# Altium footprint library RES-TH_BD2.4-L6.3-P10.30-D0.6.PcbLib: 1 footprints
Each footprint in its own frame and in the unit in brackets; x right, y up, seen from the top. Pads: shape width x height; smd on the part's side, far side on the other; paste and mask are expansions set on the pad; w line width, h text height; cw(c..) or ccw(c..) is an arc to the next point about the centre after c.
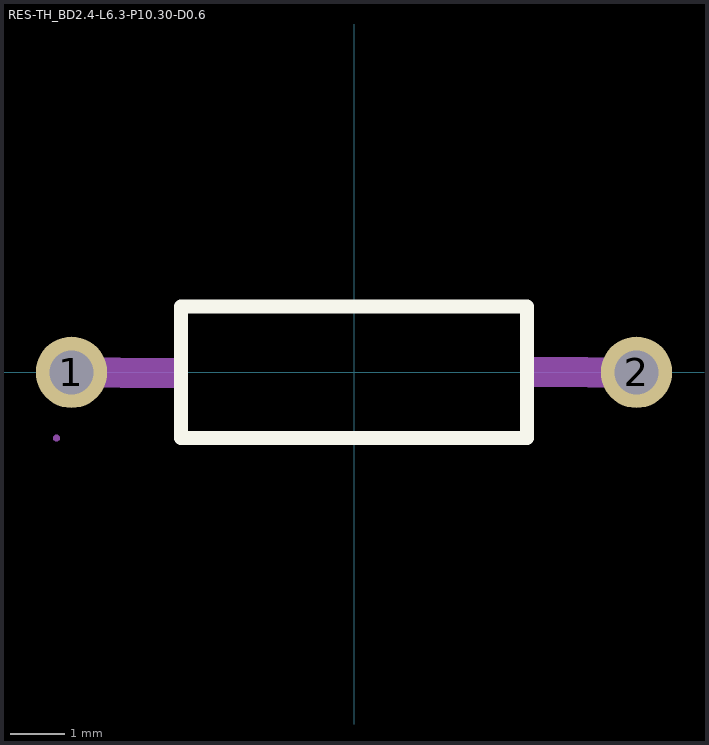
[diagram p0: the footprint, top view; thin cyan lines are the x and y axes]

## RES-TH_BD2.4-L6.3-P10.30-D0.6 [mm]
pads (2):
  round 1.3 hole 0.8: 1(-5.15,0) 2(5.15,0)
Top Overlay:
  lines w0.254: -3.15,-1.2 -3.15,1.2 3.15,1.2 3.15,-1.2 -3.15,-1.2
Mechanical 15:
  region: 3.098,0.282 5.428,0.268 5.428,-0.282 3.092,-0.266
  region: -5.42,0.275 -3.09,0.26 -3.09,-0.29 -5.425,-0.274
  region: -4.875,0 -4.875,-0.055 -4.917,-0.156 -4.994,-0.233 -5.095,-0.275 -5.205,-0.275 -5.306,-0.233 -5.383,-0.156 -5.425,-0.055 -5.425,0 -5.425,0.055 -5.383,0.156 -5.306,0.233 -5.205,0.275 -5.095,0.275 -4.994,0.233 -4.917,0.156 -4.875,0.055 -4.875,0
  region: 5.425,0 5.425,-0.055 5.383,-0.156 5.306,-0.233 5.205,-0.275 5.095,-0.275 4.994,-0.233 4.917,-0.156 4.875,-0.055 4.875,0 4.875,0.055 4.917,0.156 4.994,0.233 5.095,0.275 5.205,0.275 5.306,0.233 5.383,0.156 5.425,0.055 5.425,0
  region: -5.365,-1.2 -5.365,-1.225 -5.4,-1.26 -5.45,-1.26 -5.485,-1.225 -5.485,-1.2 -5.485,-1.175 -5.45,-1.14 -5.4,-1.14 -5.365,-1.175 -5.365,-1.2
  lines w0.051: -3.15,-1.2 3.15,-1.2 3.15,1.2 -3.15,1.2 -3.15,-1.2